# Altium schematic symbol library T25_Components.SchLib: 8 symbols
Pins are listed as number, name and electrical type; pins without a type are passive.

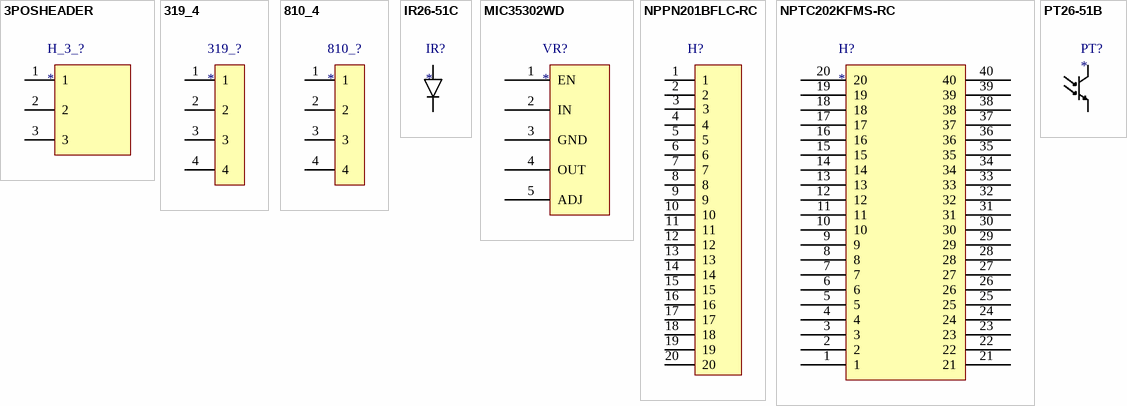
[diagram p0: symbols 3POSHEADER to PT26-51B]

## 3POSHEADER
designator H_3_?
3 POS HEADER
footprint 3POSHEADER (3 position header smt)
pins: 1, 2, 3

## 319_4
designator 319_?
pad for mill max 319 series
footprint 319_4
pins: 1, 2, 3, 4

## 810_4
designator 810_?
pad for mill max 810 series
footprint 810_4
pins: 1, 2, 3, 4

## IR26-51C
designator IR?
IR26-51C SMD IR Emitter
footprint SFH 4056 (Infrared (IR) Emitter 860nm 1.6V 70mA 35mW/sr @ 70mA 44° 2-SMD, No Lead)
pins: 1 A "Cathode", 2 C "Cathode"

## MIC35302WD
designator VR?
3A voltage regulator
footprint TO-252_5PIN
pins: 1 EN, 2 IN, 3 GND, 4 OUT, 5 ADJ

## NPPN201BFLC-RC
designator H?, comment 1x20HEADER  (value not drawn)
1x20 FEMALE SOCKET HEADER SMD
footprint NPPN201BFLC-RC (SMD 1x20 FEMALE SOCKET HEADER)
pins: 1, 2, 3, 4, 5, 6, 7, 8, 9, 10, 11, 12, 13, 14, 15, 16, 17, 18, 19, 20

## NPTC202KFMS-RC
designator H?
40 Position Header Connector 0.100" (2.54mm) Surface Mount Tin
footprint NPTC202KFMS-RC (40 Position Header Connector 0.100" (2.54mm) Surface Mount Tin)
pins: 1, 2, 3, 4, 5, 6, 7, 8, 9, 10, 11, 12, 13, 14, 15, 16, 17, 18, 19, 20, 21, 22, 23, 24, 25, 26, 27, 28, 29, 30, 31, 32, 33, 34, 35, 36, 37, 38, 39, 40

## PT26-51B
designator PT?
footprint VEMT2020X01 (Phototransistor 860nm Top View 2-SMD, Gull Wing)
pins: 1 C "Cathode", 2 E "Cathode"